# Altium schematic symbol library Resistors.SchLib: 2 symbols
Pins are listed as number, name and electrical type; pins without a type are passive.

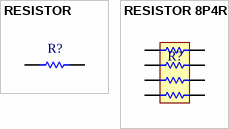
[diagram p0: symbols RESISTOR to RESISTOR 8P4R]

## RESISTOR
designator R?, comment RES  (value not drawn)
footprint RES-0805
footprint RES-0603
footprint RES-1206
footprint RES-2512
footprint RES-4527
pins: 1, 2

## RESISTOR 8P4R
designator R?, comment RES  (value not drawn)
footprint RES-0603-8P4R
pins: 1, 2, 3, 4, 5, 6, 7, 8